# EAGLE library part AS5048B-HTSP-500 (library AS5048B-HTSP-500)
Board Mount Hall Effect / Magnetic Sensors 14-bit rotary position sensor Source: Datasheet <http://ams.com/eng/content/download/438523/1341157/143016>
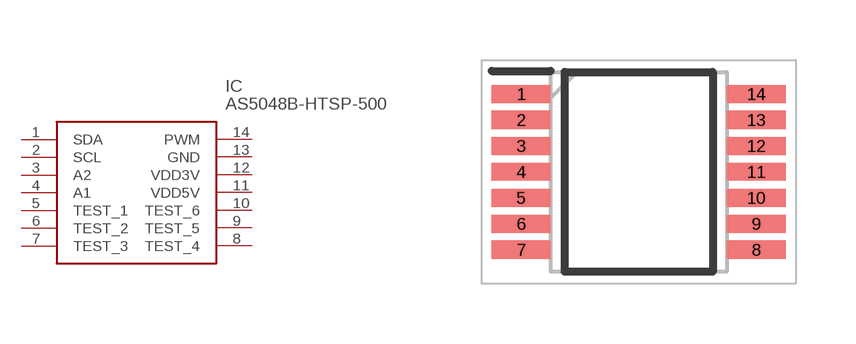
[diagram p0: symbol with the pads of SOP65P640X120-14N; footprint SOP65P640X120-14N]

Designator prefix IC

## AS5048B-HTSP-500 (Arrow_Part_Number: AS5048B-HTSP-500; Arrow_Price-Stock: https://www.arrow.com/en/products/as5048b-htsp-500/ams-ag; Description: Board Mount Hall Effect / Magnetic Sensors 14-bit rotary position sensor; Height: 1.2mm; Manufacturer_Name: ams; Manufacturer_Part_Number: AS5048B-HTSP-500)  [SOP65P640X120-14N]
1  SDA
2  SCL
3  A2
4  A1
5  TEST_1
6  TEST_2
7  TEST_3
8  TEST_4
9  TEST_5
10  TEST_6
11  VDD5V
12  VDD3V
13  GND
14  PWM

## Footprint SOP65P640X120-14N (pad centres in mm)
TSSOP-14
smd 1.475 x 0.45: 1 -2.938,1.95; 2 -2.938,1.3; 3 -2.938,0.65; 4 -2.938,0; 5 -2.938,-0.65; 6 -2.938,-1.3; 7 -2.938,-1.95; 8 2.938,-1.95; 9 2.938,-1.3; 10 2.938,-0.65; 11 2.938,0; 12 2.938,0.65; 13 2.938,1.3; 14 2.938,1.95